# EAGLE library part MCP2515-X/ST (library custom)
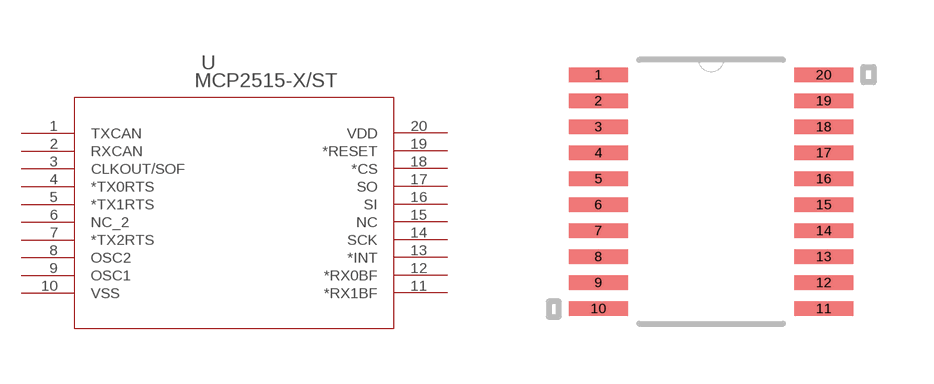
[diagram p6: symbol with the pads of TSSOP20_MC; footprint TSSOP20_MC]

Designator prefix U

## MCP2515-X/ST  [TSSOP20_MC]
1  TXCAN  pas
2  RXCAN  pas
3  CLKOUT/SOF  pas
4  *TX0RTS  pas
5  *TX1RTS  pas
6  NC_2  pas
7  *TX2RTS  pas
8  OSC2  pas
9  OSC1  pas
10  VSS  pas
11  *RX1BF  pas
12  *RX0BF  pas
13  *INT  pas
14  SCK  pas
15  NC  pas
16  SI  pas
17  SO  pas
18  *CS  pas
19  *RESET  pas
20  VDD  pas

## Footprint TSSOP20_MC (pad centres in mm)
smd 1.473 x 0.356: 1 -2.819,2.925; 2 -2.819,2.275; 3 -2.819,1.625; 4 -2.819,0.975; 5 -2.819,0.325; 6 -2.819,-0.325; 7 -2.819,-0.975; 8 -2.819,-1.625; 9 -2.819,-2.275; 10 -2.819,-2.925; 11 2.819,-2.925; 12 2.819,-2.275; 13 2.819,-1.625; 14 2.819,-0.975; 15 2.819,-0.325; 16 2.819,0.325; 17 2.819,0.975; 18 2.819,1.625; 19 2.819,2.275; 20 2.819,2.925